# Altium footprint library SHTC3.PcbLib: 1 footprints
Each footprint in its own frame and in the unit in brackets; x right, y up, seen from the top. Pads: shape width x height; smd on the part's side, far side on the other; paste and mask are expansions set on the pad; w line width, h text height; cw(c..) or ccw(c..) is an arc to the next point about the centre after c.
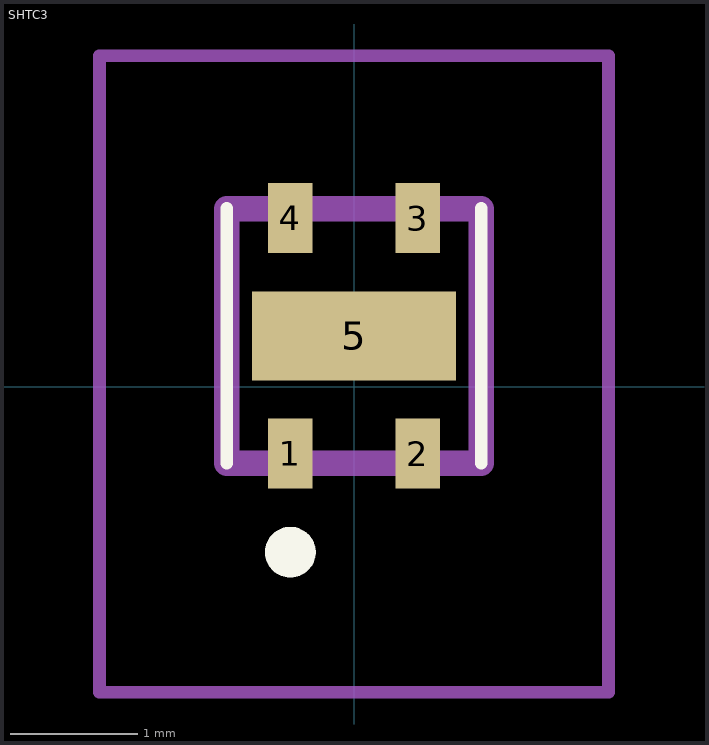
[diagram p0: the footprint, top view; thin cyan lines are the x and y axes]

## SHTC3 [mm]
pads (5):
  rect 0.35x0.55 smd: 1(-0.5,-0.525) 2(0.5,-0.525) 3(0.5,1.325) 4(-0.5,1.325)
  rect 1.6x0.7 smd: 5(0,0.4)
Top Overlay:
  lines w0.1: -1,-0.6 -1,1.4 ; 1,-0.6 1,1.4
  lines w0.2: -0.6,-1.3 -0.6,-1.3 ; -0.6,-1.3 ccw(c-0.5,-1.3) -0.4,-1.3 ; -0.6,-1.3 cw(c-0.5,-1.3) -0.4,-1.3 ; -0.4,-1.3 -0.4,-1.3
Mechanical 15:
  lines w0.2: -1,-0.6 1,-0.6 1,1.4 -1,1.4 -1,-0.6
Mechanical 20:
  lines w0.1: -2,-2.4 2,-2.4 2,2.6 -2,2.6 -2,-2.4